# EAGLE library part XFMR_T68_RFC_FB (library NewSDR)
T68 Bifilar Wound RF Choke Transformer with Single Turn Feedback
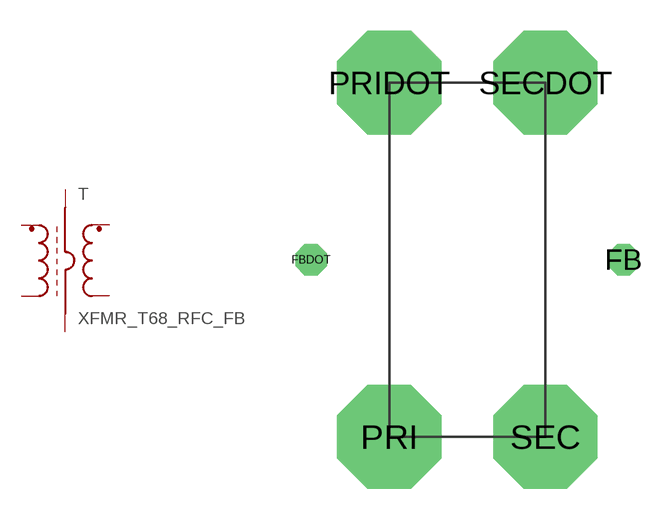
[diagram p79: symbol with the pads of T68_T_DUALSEC; footprint T68_T_DUALSEC]

Designator prefix T

## XFMR_T68_RFC_FB  [T68_T_DUALSEC]
FB  FB  pas
FBDOT  FBDOT  pas
PRI  PRI  pas
PRIDOT  PRIDOT  pas
SEC  SEC  pas
SECDOT  SECDOT  pas

## Footprint T68_T_DUALSEC (pad centres in mm)
T68 Bifilar Wound RF Choke Transformer with Dual Secondary
drill 1.016 octagon: FB 7.62,0; FBDOT -7.62,0
drill 3.175 pad 5.08 octagon: PRI -3.81,-8.636; PRIDOT -3.81,8.636; SEC 3.81,-8.636; SECDOT 3.81,8.636